# EAGLE library part 87760-20 (library untitled)
HEADER
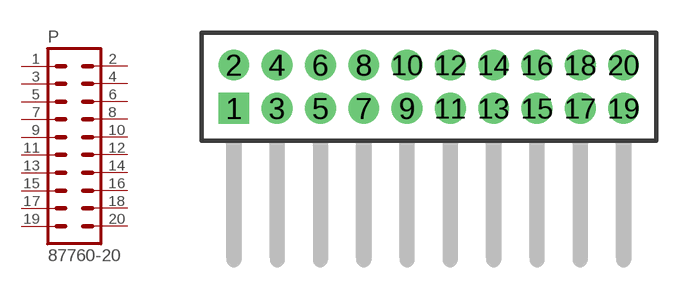
[diagram p38: symbol with the pads of 87760-20; footprint 87760-20]

Designator prefix P

## 87760-20  [87760-20]
1  1  pas
2  2  pas
3  3  pas
4  4  pas
5  5  pas
6  6  pas
7  7  pas
8  8  pas
9  9  pas
10  10  pas
11  11  pas
12  12  pas
13  13  pas
14  14  pas
15  15  pas
16  16  pas
17  17  pas
18  18  pas
19  19  pas
20  20  pas

## Footprint 87760-20 (pad centres in mm)
HEADER Dual Row, Right Angle
drill 0.914 square: 1 -9,-1
drill 0.914 round: 2 -9,1; 3 -7,-1; 4 -7,1; 5 -5,-1; 6 -5,1; 7 -3,-1; 8 -3,1; 9 -1,-1; 10 -1,1; 11 1,-1; 12 1,1; 13 3,-1; 14 3,1; 15 5,-1; 16 5,1; 17 7,-1; 18 7,1; 19 9,-1; 20 9,1